# Altium footprint library THU_VIEN_1.PcbLib: 69 footprints (part 3 of 5)
Each footprint in its own frame and in the unit in brackets; x right, y up, seen from the top. Pads: shape width x height; smd on the part's side, far side on the other; paste and mask are expansions set on the pad; w line width, h text height; cw(c..) or ccw(c..) is an arc to the next point about the centre after c.
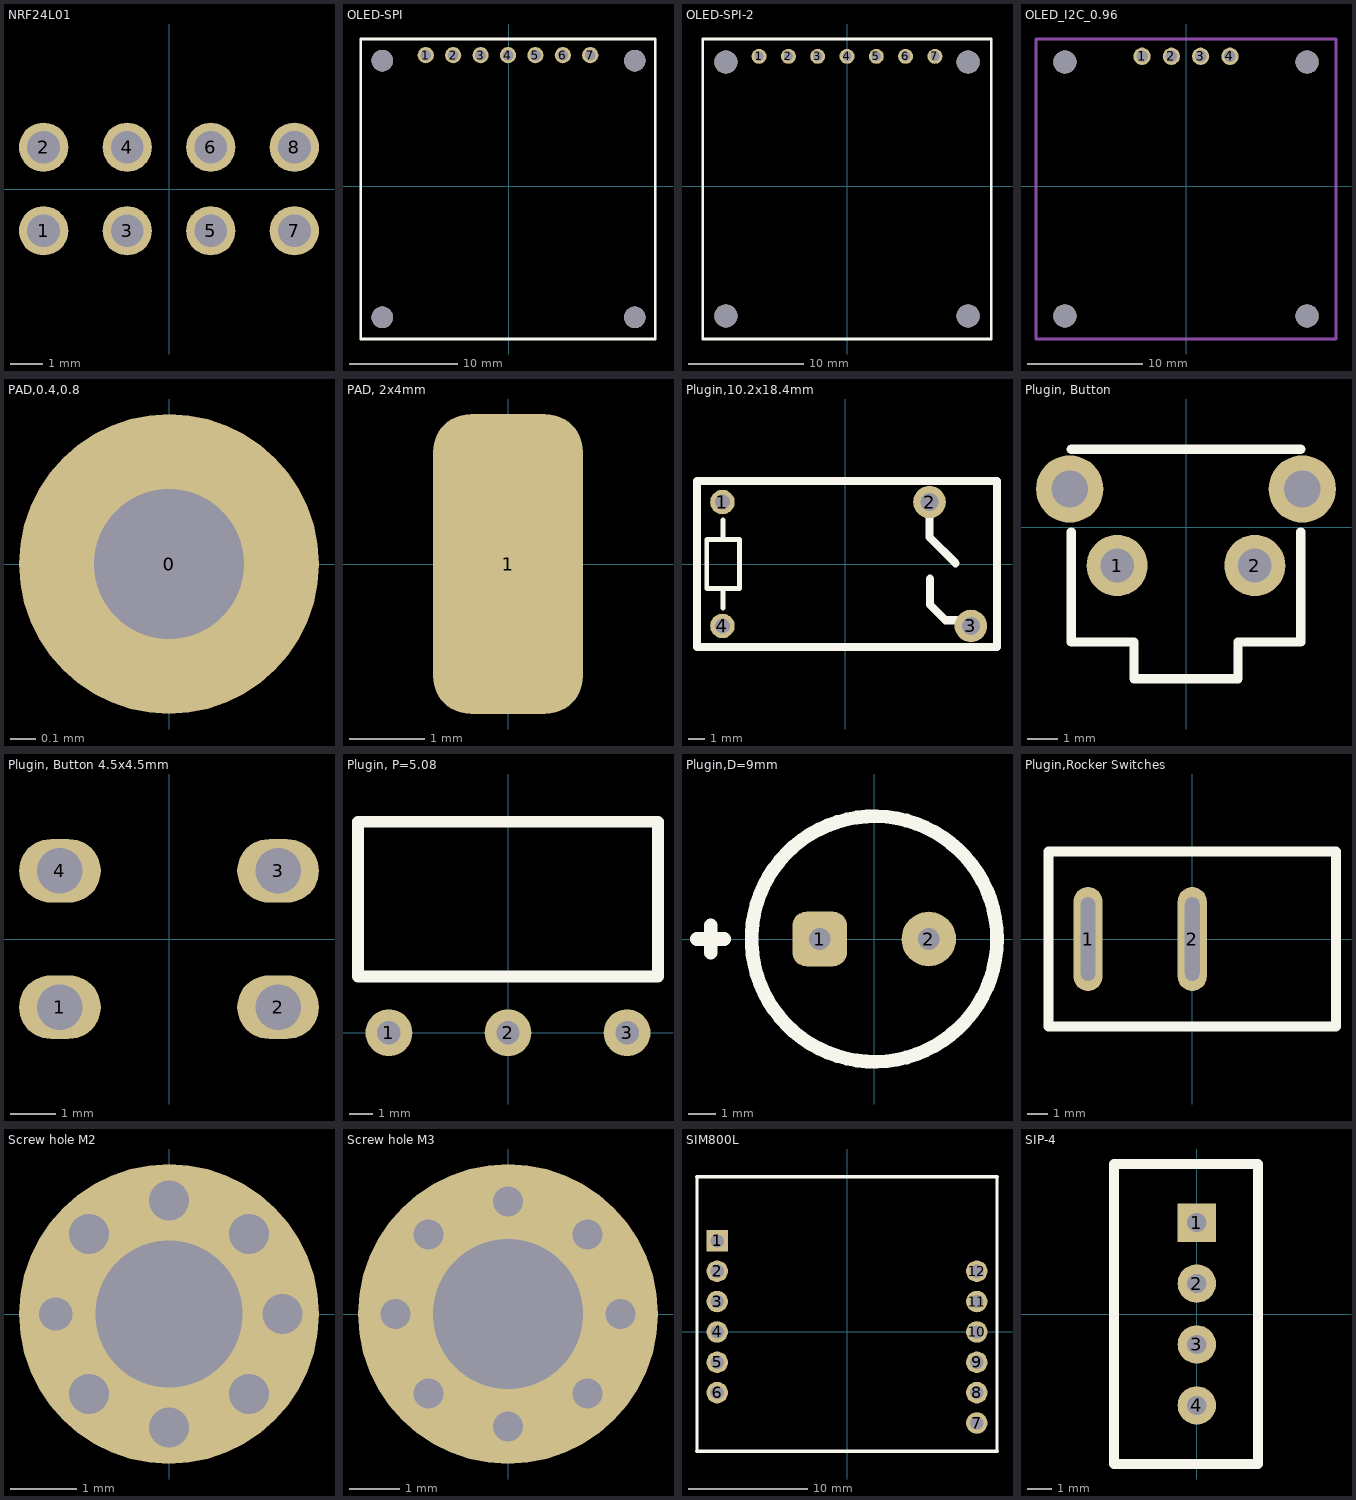
[diagram p2: the footprints below, top view; thin cyan lines are the x and y axes]

## NRF24L01 [mm]
pads (8):
  round 1.5 hole 1: 1(-3.81,-1.27) 2(-3.81,1.27) 3(-1.27,-1.27) 4(-1.27,1.27) 5(1.27,-1.27) 6(1.27,1.27) 7(3.81,-1.27) 8(3.81,1.27)
3D body "Wireless Radio Transmitter and Receiver nRF24L01.x_t": height 7.75, standoff -5.35, extent -5.57,-3.07 9.63,25.93

## OLED-SPI [mm]
pads (11):
  round 1.5 hole 1: 1(-7.67,12.15) 2(-5.13,12.15) 3(-2.59,12.15) 4(-0.05,12.15) 5(2.49,12.15) 6(5.03,12.15) 7(7.57,12.15)
  round 2 hole 2: ""(-11.7,-12.15) ""(-11.7,11.65) ""(11.7,-12.15) ""(11.7,11.65)
Top Overlay:
  lines w0.254: -13.7,-14.15 -13.7,0.65 -13.7,13.65 12.3,13.65 13.6,13.65 13.6,-6.55 13.6,-14.15 -12.4,-14.15 -13.7,-14.15

## OLED-SPI-2 [mm]
pads (11):
  round 1.3 hole 0.8: 1(-7.62,11.25) 2(-5.08,11.25) 3(-2.54,11.25) 4(0,11.25) 5(2.54,11.25) 6(5.08,11.25) 7(7.62,11.25)
  round 2 hole 2: ""(-10.5,-11.25) ""(-10.5,10.75) ""(10.5,-11.25) ""(10.5,10.75)
Top Overlay:
  lines w0.254: -12.5,-13.25 12.5,-13.25 12.5,12.75 -12.5,12.75 -12.5,-13.25

## OLED_I2C_0.96 [mm]
pads (8):
  round 1.5 hole 1: 1(-3.81,11.25) 2(-1.27,11.25) 3(1.27,11.25) 4(3.81,11.25)
  round 2 hole 2: ""(-10.5,-11.25) ""(-10.5,10.75) ""(10.5,-11.25) ""(10.5,10.75)
Mechanical 15:
  lines w0.3: -13,-13.25 13,-13.25 13,12.75 -13,12.75 -13,-13.25
3D body "DM-OLED096-636--3DModel-STEP-56544.STEP": height 5.66, standoff -5.64, extent -13,-13.25 13,12.75

## PAD,0.4,0.8 [mm]
pads (1):
  round 1.2 / inner round 0.8 / far side round 0 hole 0.6 mask+0.2: 0(0,0)

## PAD, 2x4mm [mm]
pads (1):
  rrect50% 2x4 smd mask+0.2: 1(0,0)

## Plugin,10.2x18.4mm [mm]
pads (4):
  round 1.5 hole 0.9: 1(-7.54,3.8) 4(-7.54,-3.8)
  round 2 hole 1.1: 2(5.16,3.8) 3(7.7,-3.8)
Top Overlay:
  lines w0.3: -7.5,-2.7 -7.5,-1.5 ; -7.5,1.5 -7.5,2.7 ; -8.5,-1.5 -8.5,1.5 -6.5,1.5 -6.5,-1.5 -8.5,-1.5
  lines w0.5: 5.16,3.45 5.16,1.64 6.75,0.05 ; 5.2,-0.9 5.2,-2.2 5.2,-2.5 6.15,-3.45 7.7,-3.45 ; -9.1,-5.1 9.3,-5.1 9.3,5.1 -9.1,5.1 -9.1,-5.1
3D body "HF32FA.stp": height 12.8, standoff -3.5, extent -8.5,-5.05 9.1,5.05

## Plugin, Button [mm]
pads (4):
  round 2 hole 1.1 mask+0.1: 1(-2.25,-1.25) 2(2.25,-1.25)
  round 2.2 hole 1.2 mask+0.1: ""(-3.8,1.25) ""(3.8,1.25)
Top Overlay:
  lines w0.3: -3.75,-0.15 -3.75,-3.75 -1.7,-3.75 -1.7,-4.95 1.7,-4.95 1.7,-3.779 ; -3.75,2.55 3.75,2.55 ; 1.7,-3.75 3.7,-3.75 ; 3.75,-3.75 3.75,-0.15
3D body "A06N-7.3Q.step": height 7.1, standoff -4.4, extent -4.156,-9.798 4.156,2.5

## Plugin, Button 4.5x4.5mm [mm]
pads (4):
  oval 1.8x1.4 hole 1: 1(-2.4,-1.5) 2(2.4,-1.5) 3(2.4,1.5) 4(-2.4,1.5)

## Plugin, P=5.08 [mm]
pads (3):
  round 2 hole 1 mask+0.15: 1(-5.08,0) 2(0,0) 3(5.08,0)
Top Overlay:
  lines w0.5: -6.4,2.4 -6.4,9 6.4,9 6.4,2.4 -6.4,2.4
3D body "Limit Micro Switch.STEP": height 5.8, standoff -4.3, extent -6.4,-0.2 8.234,11.869

## Plugin,D=9mm [mm]
pads (2):
  rrect50% 2x2 hole 0.8: 1(-2,0)
  round 2 hole 0.8: 2(2,0)
Top Overlay:
  circle w0.5: c0,0 r4.5
  lines w0.5: -6.5,0 -5.5,0 ; -6,-0.5 -6,0.5
3D body "User Library-Buzzer_9mm.STEP": height 5.6, standoff -5.4, extent -4.55,-4.55 4.55,4.55

## Plugin,Rocker Switches [mm]
pads (2):
  oval 1.4x5 hole 0.7 slot 4 at 90 deg mask+0.2: 1(-5,0) 2(0,0)
Top Overlay:
  lines w0.5: -6.9,-4.2 -6.9,4.2 6.9,4.2 6.9,-4.2 -6.9,-4.2
3D body "KCD1-11-2P-Off.step": height 13.11, standoff -5.6, extent -7.6,-5.25 7.6,5.25

## Screw hole M2 [mm]
pads (9):
  round 0.5 hole 0.5: ""(-1.7,0)
  round 0.6 hole 0.6: ""(-1.202,-1.202) ""(-1.202,1.202) ""(0,-1.7) ""(0,1.7) ""(1.202,-1.202) ""(1.202,1.202) ""(1.7,0)
  round 4.5 hole 2.2 mask+0.1: ""(0,0)

## Screw hole M3 [mm]
pads (9):
  round 0.6 hole 0.6: ""(-2.25,0) ""(-1.591,1.591) ""(-1.591,-1.591) ""(0,-2.25) ""(0,2.25) ""(1.591,1.591) ""(1.591,-1.591) ""(2.25,0)
  round 6 hole 3 mask+0.1: ""(0,0)

## SIM800L [mm]
pads (12):
  rect 1.8x1.8 hole 1.1: 1(-10.858,7.62)
  round 1.8 hole 1.1: 2(-10.858,5.08) 3(-10.858,2.54) 4(-10.858,0) 5(-10.858,-2.54) 6(-10.858,-5.08) 7(10.858,-7.62) 8(10.858,-5.08) 9(10.858,-2.54) 10(10.858,0) 11(10.858,2.54) 12(10.858,5.08)
Top Overlay:
  lines w0.254: -12.55,-10 -12.55,13 ; 12.55,-10 12.55,13
  lines w0.3: -12.55,-10 12.55,-10 ; -12.55,13 12.55,13
3D body "User Library-module_sim800l.STEP": height 10.72, standoff -1.78, extent -12.5,-10 12.5,13.134

## SIP-4 [mm]
pads (4):
  rect 1.6x1.6 hole 0.8: 1(0,3.81)
  round 1.6 hole 0.8: 2(0,1.27) 3(0,-1.27) 4(0,-3.81)
Top Overlay:
  lines w0.4: -3.45,-6.25 2.55,-6.25 2.55,6.25 -3.45,6.25 -3.45,-6.25
3D body "User Library-DHT11.STEP": height 19.75, standoff -3.75, extent -2.9,-6 2.6,6